# Altium footprint library Components - 24.04.20 - 00.45.PcbLib: 1 footprints
Each footprint in its own frame and in the unit in brackets; x right, y up, seen from the top. Pads: shape width x height; smd on the part's side, far side on the other; paste and mask are expansions set on the pad; w line width, h text height; cw(c..) or ccw(c..) is an arc to the next point about the centre after c.
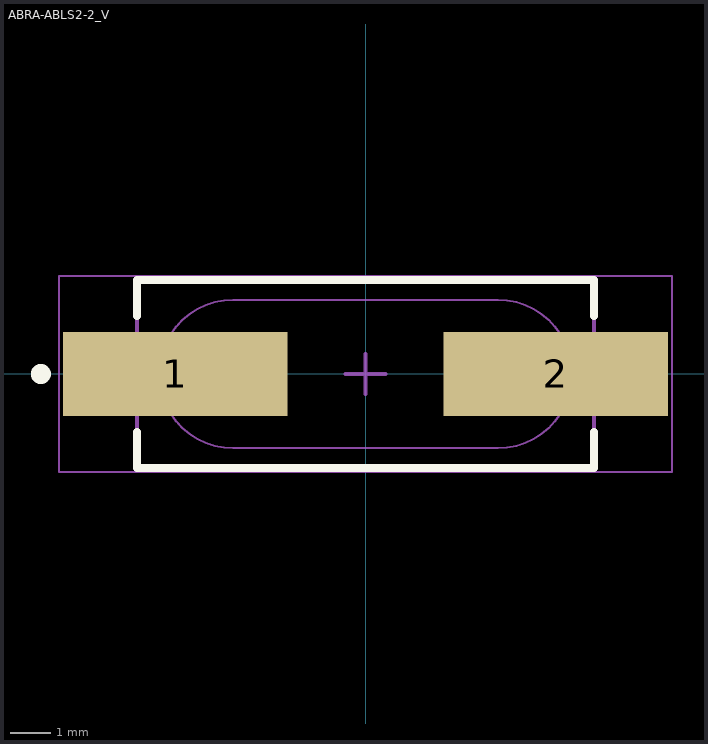
[diagram p0: the footprint, top view; thin cyan lines are the x and y axes]

## ABRA-ABLS2-2_V [mm] "SMD, 2-Leads, Body 11.4x4.7mm, Height 3.3mm"
height 3.3
pads (2):
  rect 5.6x2.1 smd: 1(-4.75,0) 2(4.75,0)
Top Overlay:
  circle w0.25: c-8.1,0 r0.125
  lines w0.2: -5.7,-1.45 -5.7,-2.35 5.7,-2.35 5.7,-1.45 ; -5.7,1.45 -5.7,2.35 5.7,2.35 5.7,1.45
Mechanical 13:
  lines w0.05: -3.3,-1.85 cw(c-3.3,0) -3.3,1.85 3.3,1.85 cw(c3.3,0) 3.3,-1.85 -3.3,-1.85
  lines w0.1: -5.7,-2.35 -5.7,2.35 5.7,2.35 5.7,-2.35 -5.7,-2.35
Mechanical 15:
  lines w0.05: -7.65,-2.45 7.65,-2.45 7.65,2.45 -7.65,2.45 -7.65,-2.45
  lines w0.1: -0.5,0 0.5,0 ; 0,-0.5 0,0.5
3D body: height 3.3, standoff 0.5, extent -5.151,-1.851 5.151,1.851
3D body: height 0.5, standoff 0, extent -5.699,-2.349 5.699,2.349